# EAGLE library part SPDT-SWITCH (library - Jins eagle lbr)
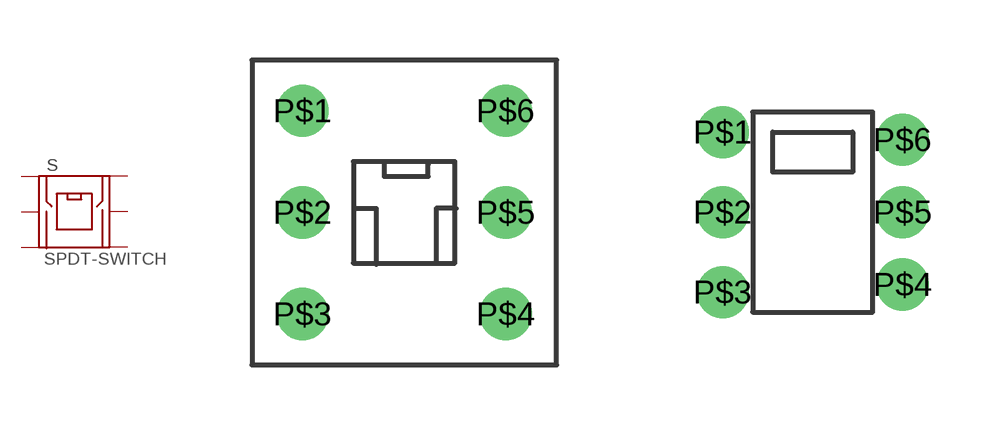
[diagram p11: symbol with the pads of SWITCH-PUSH-85X85; footprints SWITCH-PUSH-85X85, SWITCH-PUSH-5.8X5.8]

Designator prefix S

## SPDT-SWITCH-8.5MM  [SWITCH-PUSH-85X85]
P$1  1
P$2  2
P$3  3
P$4  4
P$5  5
P$6  6

## SPDT-SWITCH-5.8MM  [SWITCH-PUSH-5.8X5.8]
Pads as for SWITCH-PUSH-85X85

## Footprint SWITCH-PUSH-85X85 (pad centres in mm)
drill 0.8: P$1 -2.54,2.54; P$2 -2.54,0; P$3 -2.54,-2.54; P$4 2.54,-2.54; P$5 2.54,0; P$6 2.54,2.54

## Footprint SWITCH-PUSH-5.8X5.8 (pad centres in mm)
drill 0.8: P$1 -2.25,2; P$2 -2.25,0; P$3 -2.25,-2; P$4 2.25,-1.81; P$5 2.25,0; P$6 2.25,1.81